# Altium footprint library SMT_CHIP.PcbLib: 26 footprints (part 2 of 2)
Each footprint in its own frame and in the unit in brackets; x right, y up, seen from the top. Pads: shape width x height; smd on the part's side, far side on the other; paste and mask are expansions set on the pad; w line width, h text height; cw(c..) or ccw(c..) is an arc to the next point about the centre after c.
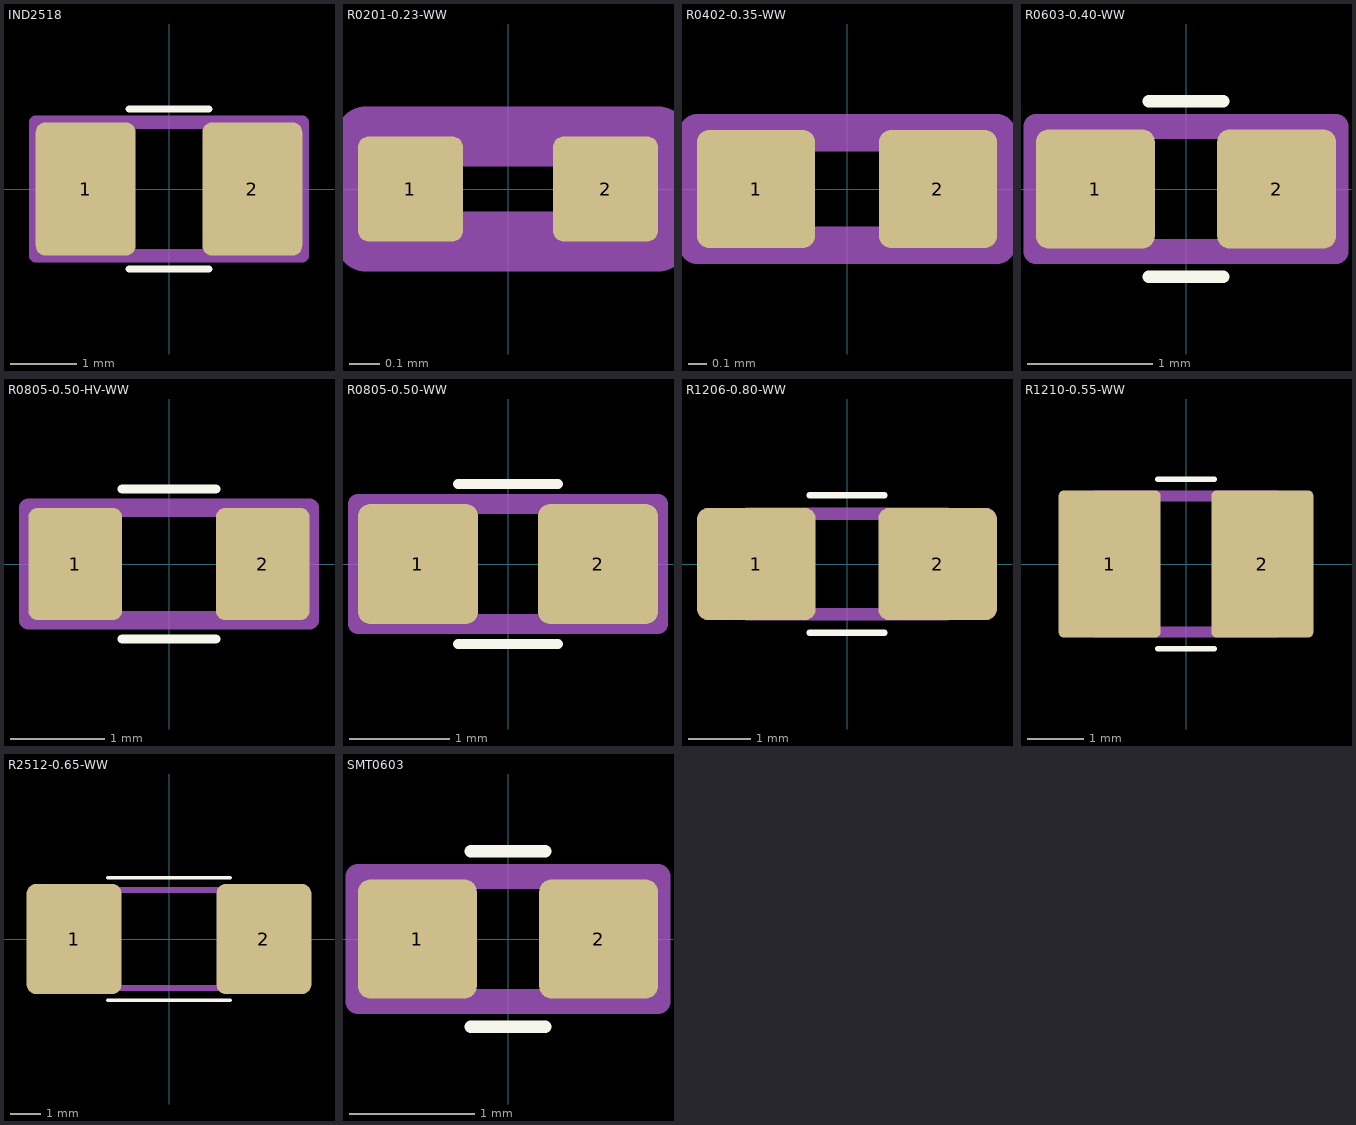
[diagram p1: the footprints below, top view; thin cyan lines are the x and y axes]

## IND2518 [mm]
height 1.8
pads (2):
  rrect20% 1.5x2 smd: 1(-1.25,0) 2(1.25,0)
Top Overlay:
  lines w0.1: -0.6,-1.2 0.6,-1.2 ; -0.6,1.2 0.6,1.2
Top Assembly:
  lines w0.2: -2,-1 -2,1 2,1 2,-1 -2,-1
3D body "IND-2518.stp": height 1.8, standoff 0, extent -1.231,-0.9 1.269,0.9

## R0201-0.23-WW [mm]
height 0.23
pads (2):
  rrect20% 0.35x0.35 smd: 1(-0.325,0) 2(0.325,0)
Top Assembly:
  lines w0.2: -0.475,-0.175 0.5,-0.175 0.5,0.175 -0.475,0.175 -0.475,-0.175
3D body "RES-0201.stp": height 0.11, standoff 0.01, extent -0.267,-0.133 0.267,0.133

## R0402-0.35-WW [mm]
height 0.4
pads (2):
  rrect20% 0.63x0.63 smd: 1(-0.485,0) 2(0.485,0)
Top Assembly:
  lines w0.2: -0.8,-0.3 -0.8,0.3 0.8,0.3 0.8,-0.3 -0.8,-0.3
3D body "RES-0402.stp": height 0.21, standoff 0.01, extent -0.533,-0.267 0.533,0.267

## R0603-0.40-WW [mm]
height 0.4
pads (2):
  rrect20% 0.95x0.95 smd: 1(-0.725,0) 2(0.725,0)
Top Overlay:
  lines w0.1: -0.3,-0.7 0.3,-0.7 ; -0.3,0.7 0.3,0.7
Top Assembly:
  lines w0.2: -1.2,-0.5 -1.2,0.5 1.2,0.5 1.2,-0.5 -1.2,-0.5
3D body "RES-0603.step": height 0.3, standoff 0, extent -0.8,-0.4 0.8,0.4

## R0805-0.50-HV-WW [mm]
height 0.5
pads (2):
  rrect20% 1x1.2 smd: 1(-1,0) 2(1,0)
Top Overlay:
  lines w0.1: -0.5,-0.8 0.5,-0.8 ; -0.5,0.8 0.5,0.8
Top Assembly:
  lines w0.2: -1.5,-0.6 1.5,-0.6 1.5,0.6 -1.5,0.6 -1.5,-0.6
3D body "RES-0805.stp": height 0.37, standoff -0.01, extent -1,-0.5 1,0.5

## R0805-0.50-WW [mm]
height 0.5
pads (2):
  rrect20% 1.2x1.2 smd: 1(-0.9,0) 2(0.9,0)
Top Overlay:
  lines w0.1: -0.5,-0.8 0.5,-0.8 ; -0.5,0.8 0.5,0.8
Top Assembly:
  lines w0.2: -1.5,-0.6 -1.5,0.6 1.5,0.6 1.5,-0.6 -1.5,-0.6
3D body "RES-0805.stp": height 0.37, standoff -0.01, extent -1,-0.5 1,0.5

## R1206-0.80-WW [mm]
height 0.8
pads (2):
  rrect20% 1.9x1.8 smd: 1(-1.45,0) 2(1.45,0)
Top Overlay:
  lines w0.1: -0.6,-1.1 0.6,-1.1 ; -0.6,1.1 0.6,1.1
Top Assembly:
  lines w0.2: -1.6,-0.8 -1.6,0.8 1.6,0.8 1.6,-0.8 -1.6,-0.8
3D body "RES-1206.stp": height 0.62, standoff 0.02, extent -1.6,-0.8 1.6,0.8

## R1210-0.55-WW [mm]
height 0.55
pads (2):
  rrect10% 1.8x2.6 smd: 1(-1.35,0) 2(1.35,0)
Top Overlay:
  lines w0.1: -0.5,-1.5 0.5,-1.5 ; -0.5,1.5 0.5,1.5
Top Assembly:
  lines w0.2: -1.6,-1.2 1.6,-1.2 1.6,1.2 -1.6,1.2 -1.6,-1.2
3D body: height 0.55, standoff 0, extent -1.55,-1.29 -1.05,1.29
3D body: height 0.55, standoff 0, extent 1.05,-1.29 1.55,1.29
3D body: height 0.5, standoff 0.05, extent -1.5,-1.3 1.5,1.3
3D body: height 0.55, standoff 0.5, extent -1.05,-1.29 1.05,1.29

## R2512-0.65-WW [mm]
height 0.8
pads (2):
  rrect20% 3.1x3.6 smd: 1(-3.1,0) 2(3.1,0)
Top Overlay:
  lines w0.1: -2,-2 2,-2 ; -2,2 2,2
Top Assembly:
  lines w0.2: -3.2,-1.6 3.2,-1.6 3.2,1.6 -3.2,1.6 -3.2,-1.6
3D body "RES-2512.stp": height 0.68, standoff 0.02, extent -3.2,-1.6 3.2,1.6

## SMT0603 [mm]
height 0.4
pads (2):
  rrect20% 0.95x0.95 smd: 1(-0.725,0) 2(0.725,0)
Top Overlay:
  lines w0.1: -0.3,-0.7 0.3,-0.7 ; -0.3,0.7 0.3,0.7
Top Assembly:
  lines w0.2: -1.2,-0.5 -1.2,0.5 1.2,0.5 1.2,-0.5 -1.2,-0.5
3D body: height 2.65, standoff 0, extent -1.025,-0.45 1.025,0.45